# EAGLE library part 693063020911 (library InputOutputIO (rev18a))
WR-CRD SD CARD CONNECTOR PUSH & PULL SHORT TYPE WITH CARD DETECTION 9PINS=>Code : Con_I-O_COM_CRD_SD_Normal_693063020911 <http://katalog.we-online.de/media/images/eican/Con_I-O_COM_CRD_SD_Normal_693063020911_pf2.jpg> Details see: http://katalog.we-online.de/en/em/CRD_SD_PUSH_AND_PULL_CRD_DETETCION_SHORT_TYPE_9_PINS/693063020911 Created 2014-07-09, Karrer Zheng 2014 (C) Würth Elektronik
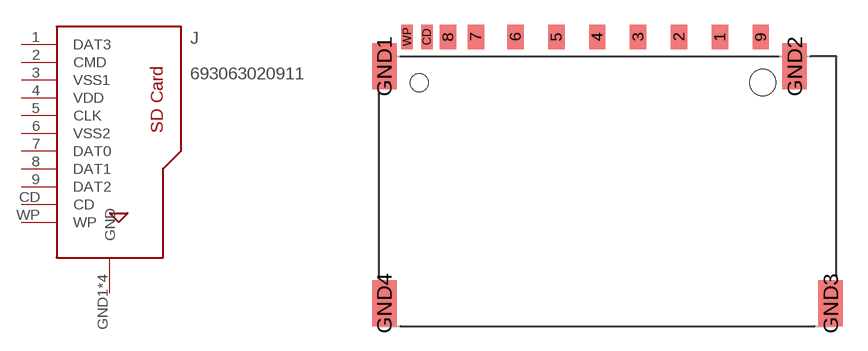
[diagram p90: symbol with the pads of 693063020911; footprint 693063020911]

Designator prefix J

## 693063020911  [693063020911]
1  DAT3
2  CMD
3  VSS1
4  VDD
5  CLK
6  VSS2
7  DAT0
8  DAT1
9  DAT2
CD  CD
GND1  GND
GND2  GND
GND3  GND
GND4  GND
WP  WP

## Footprint 693063020911 (pad centres in mm)
WR-CRD SD CARD CONNECTOR PUSH & PULL SHORT TYPE WITH CARD DETECTION 9PINS
smd 1 x 1.5: 1 6.875,0; 2 4.375,0; 3 1.875,0; 4 -0.625,0; 5 -3.125,0; 6 -5.625,0; 7 -8.05,0; 8 -9.75,0; 9 9.375,0
smd 0.7 x 1.5: CD -11.05,0; WP -12.25,0
smd 1.5 x 2.8: GND1 -13.65,-1.8; GND2 11.45,-1.8; GND3 13.65,-16.3; GND4 -13.65,-16.3
hole 1.1 at -11.5,-2.8
hole 1.6 at 9.5,-2.8